# Altium footprint library QFN-24.PcbLib: 1 footprints
Each footprint in its own frame and in the unit in brackets; x right, y up, seen from the top. Pads: shape width x height; smd on the part's side, far side on the other; paste and mask are expansions set on the pad; w line width, h text height; cw(c..) or ccw(c..) is an arc to the next point about the centre after c.
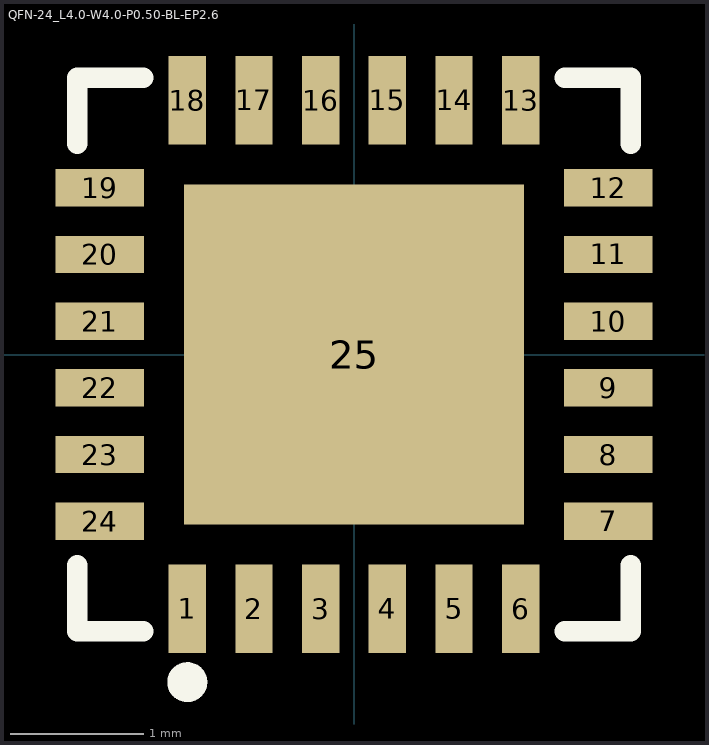
[diagram p0: the footprint, top view; thin cyan lines are the x and y axes]

## QFN-24_L4.0-W4.0-P0.50-BL-EP2.6 [mm]
pads (25):
  rect 0.28x0.665 smd paste-100 mask+0.05: 1(-1.25,-1.907) 2(-0.75,-1.907) 3(-0.25,-1.907) 4(0.25,-1.907) 5(0.75,-1.907) 6(1.25,-1.907) 13(1.25,1.907) 14(0.75,1.907) 15(0.25,1.907) 16(-0.25,1.907) 17(-0.75,1.907) 18(-1.25,1.907)
  rect 0.665x0.28 smd paste-100 mask+0.05: 7(1.907,-1.25) 8(1.907,-0.75) 9(1.907,-0.25) 10(1.907,0.25) 11(1.907,0.75) 12(1.907,1.25) 19(-1.907,1.25) 20(-1.907,0.75) 21(-1.907,0.25) 22(-1.907,-0.25) 23(-1.907,-0.75) 24(-1.907,-1.25)
  rect 2.55x2.55 smd paste-100 mask+0.05: 25(0,0)
Top Overlay:
  circle w0.15: c-1.25,-2.457 r0.075
  lines w0.152: -2.076,-1.58 -2.076,-2.076 -1.58,-2.076 ; -2.076,1.58 -2.076,2.076 -1.58,2.076 ; 1.58,-2.076 2.076,-2.076 2.076,-1.58 ; 1.58,2.076 2.076,2.076 2.076,1.58
Top Paste:
  region: -1.02,1.02 1.02,1.02 1.02,-1.02 -1.02,-1.02
  region: -1.39,-2.24 -1.39,-1.575 -1.11,-1.575 -1.11,-2.24
  region: -0.89,-2.24 -0.89,-1.575 -0.61,-1.575 -0.61,-2.24
  region: -0.39,-2.24 -0.39,-1.575 -0.11,-1.575 -0.11,-2.24
  region: 0.11,-2.24 0.11,-1.575 0.39,-1.575 0.39,-2.24
  region: 0.61,-2.24 0.61,-1.575 0.89,-1.575 0.89,-2.24
  region: 1.11,-2.24 1.11,-1.575 1.39,-1.575 1.39,-2.24
  region: 2.24,-1.39 2.24,-1.11 1.575,-1.11 1.575,-1.39
  region: 2.24,-0.89 2.24,-0.61 1.575,-0.61 1.575,-0.89
  region: 2.24,-0.39 2.24,-0.11 1.575,-0.11 1.575,-0.39
  region: 2.24,0.11 2.24,0.39 1.575,0.39 1.575,0.11
  region: 2.24,0.61 2.24,0.89 1.575,0.89 1.575,0.61
  region: 2.24,1.11 2.24,1.39 1.575,1.39 1.575,1.11
  region: 1.11,2.24 1.11,1.575 1.39,1.575 1.39,2.24
  region: 0.61,2.24 0.61,1.575 0.89,1.575 0.89,2.24
  region: 0.11,2.24 0.11,1.575 0.39,1.575 0.39,2.24
  region: -0.39,2.24 -0.39,1.575 -0.11,1.575 -0.11,2.24
  region: -0.89,2.24 -0.89,1.575 -0.61,1.575 -0.61,2.24
  region: -1.39,2.24 -1.39,1.575 -1.11,1.575 -1.11,2.24
  region: -1.575,1.11 -1.575,1.39 -2.24,1.39 -2.24,1.11
  region: -1.575,0.61 -1.575,0.89 -2.24,0.89 -2.24,0.61
  region: -1.575,0.11 -1.575,0.39 -2.24,0.39 -2.24,0.11
  region: -1.575,-0.39 -1.575,-0.11 -2.24,-0.11 -2.24,-0.39
  region: -1.575,-0.89 -1.575,-0.61 -2.24,-0.61 -2.24,-0.89
  region: -1.575,-1.39 -1.575,-1.11 -2.24,-1.11 -2.24,-1.39